# Altium schematic symbol library ARCOM_LEDs.SchLib: 16 symbols
Pins are listed as number, name and electrical type; pins without a type are passive.

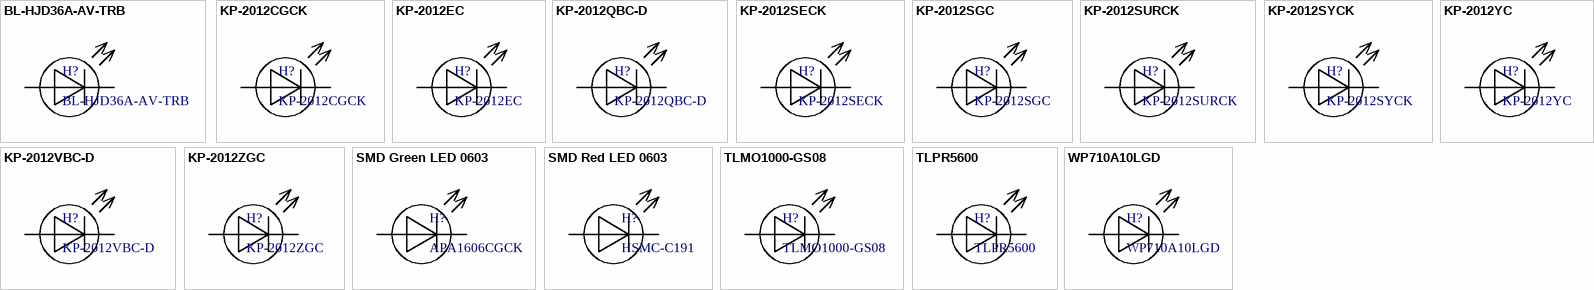
[diagram p0: symbols BL-HJD36A-AV-TRB to WP710A10LGD]

## BL-HJD36A-AV-TRB
designator H?
Top-emitting chip SMD led (Green 525nm); Manufacturer: Bright Led Electronics corp.; lambda D(nm): 630; ComponentLink1Description: Manufacturer; ComponentLink1URL: https://www.brtled.com/web/index/index.jsp?lang=en&no=0; ComponentLink2Description: Datasheet; ComponentLink2URL: https://www.smd.ru/upload/medialibrary/8f8/bl_hjd36a_av_trb.pdf; family: Led; Manufacturer P/N: BL-HJD36A-AV-TRB; Part: BL-HJD36A-AV-TRB
footprint KING-LED0603-25-ORANGE_V (LED, SMT, Body 1.6 x 0.8 mm, 0.25mm Thickness)
pins: 1 A, 2 K

## KP-2012CGCK
designator H?
Top-emitting chip SMD led (Green 570nm); Manufacturer: Kingbright; lambda D(nm): 570; ComponentLink1Description: *; ComponentLink1URL: *; ComponentLink2Description: *; ComponentLink2URL: *; family: Led; Manufacturer P/N: KP-2012CGCK; Part: KP-2012CGCK
footprint KING-KP-2012 (LED, SMT, Body 1.6 x 0.8 mm, 0.25mm Thickness)
pins: 1 A, 2 K

## KP-2012EC
designator H?
Top-emitting chip SMD led (Red 617nm); Manufacturer: Kingbright; lambda D(nm): 617; ComponentLink1Description: *; ComponentLink1URL: *; ComponentLink2Description: *; ComponentLink2URL: *; family: Led; Manufacturer P/N: KP-2012EC; Part: KP-2012EC
footprint KING-KP-2012 (LED, SMT, Body 1.6 x 0.8 mm, 0.25mm Thickness)
pins: 1 A, 2 K

## KP-2012QBC-D
designator H?
Top-emitting chip SMD led (Blue 465nm); Manufacturer: Kingbright; lambda D(nm): 465; ComponentLink1Description: *; ComponentLink1URL: *; ComponentLink2Description: *; ComponentLink2URL: *; family: Led; Manufacturer P/N: KP-2012QBC-D; Part: KP-2012QBC-D
footprint KING-KP-2012 (LED, SMT, Body 1.6 x 0.8 mm, 0.25mm Thickness)
pins: 1 A, 2 K

## KP-2012SECK
designator H?
Top-emitting chip SMD led (Red 601nm); Manufacturer: Kingbright; lambda D(nm): 601; ComponentLink1Description: *; ComponentLink1URL: *; ComponentLink2Description: *; ComponentLink2URL: *; family: Led; Manufacturer P/N: KP-2012SECK; Part: KP-2012SECK
footprint KING-KP-2012 (LED, SMT, Body 1.6 x 0.8 mm, 0.25mm Thickness)
pins: 1 A, 2 K

## KP-2012SGC
designator H?
Top-emitting chip SMD led (Green 568nm); Manufacturer: Kingbright; lambda D(nm): 568; ComponentLink1Description: *; ComponentLink1URL: *; ComponentLink2Description: *; ComponentLink2URL: *; family: Led; Manufacturer P/N: KP-2012SGC; Part: KP-2012SGC
footprint KING-KP-2012 (LED, SMT, Body 1.6 x 0.8 mm, 0.25mm Thickness)
pins: 1 A, 2 K

## KP-2012SURCK
designator H?
Top-emitting chip SMD led (Red 630nm); Manufacturer: Kingbright; lambda D(nm): 630; ComponentLink1Description: *; ComponentLink1URL: *; ComponentLink2Description: *; ComponentLink2URL: *; family: Led; Manufacturer P/N: KP-2012SURCK; Part: KP-2012SURCK
footprint KING-KP-2012 (LED, SMT, Body 1.6 x 0.8 mm, 0.25mm Thickness)
pins: 1 A, 2 K

## KP-2012SYCK
designator H?
Top-emitting chip SMD led (Yellow 590nm); Manufacturer: Kingbright; lambda D(nm): 590; ComponentLink1Description: *; ComponentLink1URL: *; ComponentLink2Description: *; ComponentLink2URL: *; family: Led; Manufacturer P/N: KP-2012SYCK; Part: KP-2012SYCK
footprint KING-KP-2012 (LED, SMT, Body 1.6 x 0.8 mm, 0.25mm Thickness)
pins: 1 A, 2 K

## KP-2012VBC-D
designator H?
Top-emitting chip SMD led (Blue 470nm); Manufacturer: Kingbright; lambda D(nm): 470; ComponentLink1Description: *; ComponentLink1URL: *; ComponentLink2Description: *; ComponentLink2URL: *; family: Led; Manufacturer P/N: KP-2012VBC-D; Part: KP-2012VBC-D
footprint KING-KP-2012 (LED, SMT, Body 1.6 x 0.8 mm, 0.25mm Thickness)
pins: 1 A, 2 K

## KP-2012YC
designator H?
Top-emitting chip SMD led (Yellow 588nm); Manufacturer: Kingbright; lambda D(nm): 588; ComponentLink1Description: *; ComponentLink1URL: *; ComponentLink2Description: *; ComponentLink2URL: *; family: Led; Manufacturer P/N: KP-2012YC; Part: KP-2012YC
footprint KING-KP-2012 (LED, SMT, Body 1.6 x 0.8 mm, 0.25mm Thickness)
pins: 1 A, 2 K

## KP-2012ZGC
designator H?
Top-emitting chip SMD led (Green 525nm); Manufacturer: Kingbright; lambda D(nm): 525; ComponentLink1Description: *; ComponentLink1URL: *; ComponentLink2Description: *; ComponentLink2URL: *; family: Led; Manufacturer P/N: KP-2012ZGC; Part: KP-2012ZGC
footprint KING-KP-2012 (LED, SMT, Body 1.6 x 0.8 mm, 0.25mm Thickness)
pins: 1 A, 2 K

## SMD Green LED 0603
designator H?, comment APA1606CGCK
SMD Green LED; Manufacturer: Keightbright; ComponentLink1Description: Manufacturer; ComponentLink2Description: Datasheet; Manufacturer P/N: APA1606CGCK; Part: APA1606CGCK
footprint KING-LED0603-25-ORANGE_V (LED, SMT, Body 1.6 x 0.8 mm, 0.25mm Thickness)
pins: 1 A, 2 K

## SMD Red LED 0603
designator H?, comment HSMC-C191
SMD Red LED; Manufacturer: Avago Technologies; ComponentLink1Description: Manufacturer; ComponentLink1URL: http://www.avagotech.com; ComponentLink2Description: Datasheet; ComponentLink2URL: http://www.avagotech.com/docs/AV02-0112EN; Manufacturer P/N: HSMC-C191; Part: HSMC-C191
footprint KING-LED0603-25-ORANGE_V (LED, SMT, Body 1.6 x 0.8 mm, 0.25mm Thickness)
pins: 1 A, 2 K

## TLMO1000-GS08
designator H?
SMD Led 0603; Manufacturer: Vishay; ComponentLink1Description: Manufacturer; ComponentLink1URL: http://www.vishay.com; ComponentLink2Description: Datasheet; ComponentLink2URL: http://www.vishay.com/docs/83172/tlmo1000.pdf; Manufacturer P/N: TLMO1000-GS08; Family: *; Part: TLMO1000-GS08
footprint KING-LED0603-25-ORANGE_V (LED, SMT, Body 1.6 x 0.8 mm, 0.25mm Thickness)
pins: 1 A, 2 K

## TLPR5600
designator H?
Sideview LED, Ø 5 mm Tinted Diffused Package; Manufacturer: Vishay; lambda D(nm): 630; ComponentLink1Description: *; ComponentLink1URL: *; ComponentLink2Description: *; ComponentLink2URL: *; Family: *; Manufacturer P/N: TLPR5600; Part: TLPR5600
footprint Vishay_TLPR5600
pins: 1 A, 2 K

## WP710A10LGD
designator H?
Solid State Lamp T-1 (Green 568nm); Manufacturer: Kingbright; lambda D(nm): 568; ComponentLink1Description: *; ComponentLink1URL: *; ComponentLink2Description: *; ComponentLink2URL: *; family: Led; Manufacturer P/N: WP710A10LGD; Part: WP710A10LGD
footprint KING-T-1
pins: 1 A, 2 K